# Altium footprint library Board_footprints.PcbLib: 24 footprints (part 1 of 2)
Each footprint in its own frame and in the unit in brackets; x right, y up, seen from the top. Pads: shape width x height; smd on the part's side, far side on the other; paste and mask are expansions set on the pad; w line width, h text height; cw(c..) or ccw(c..) is an arc to the next point about the centre after c.
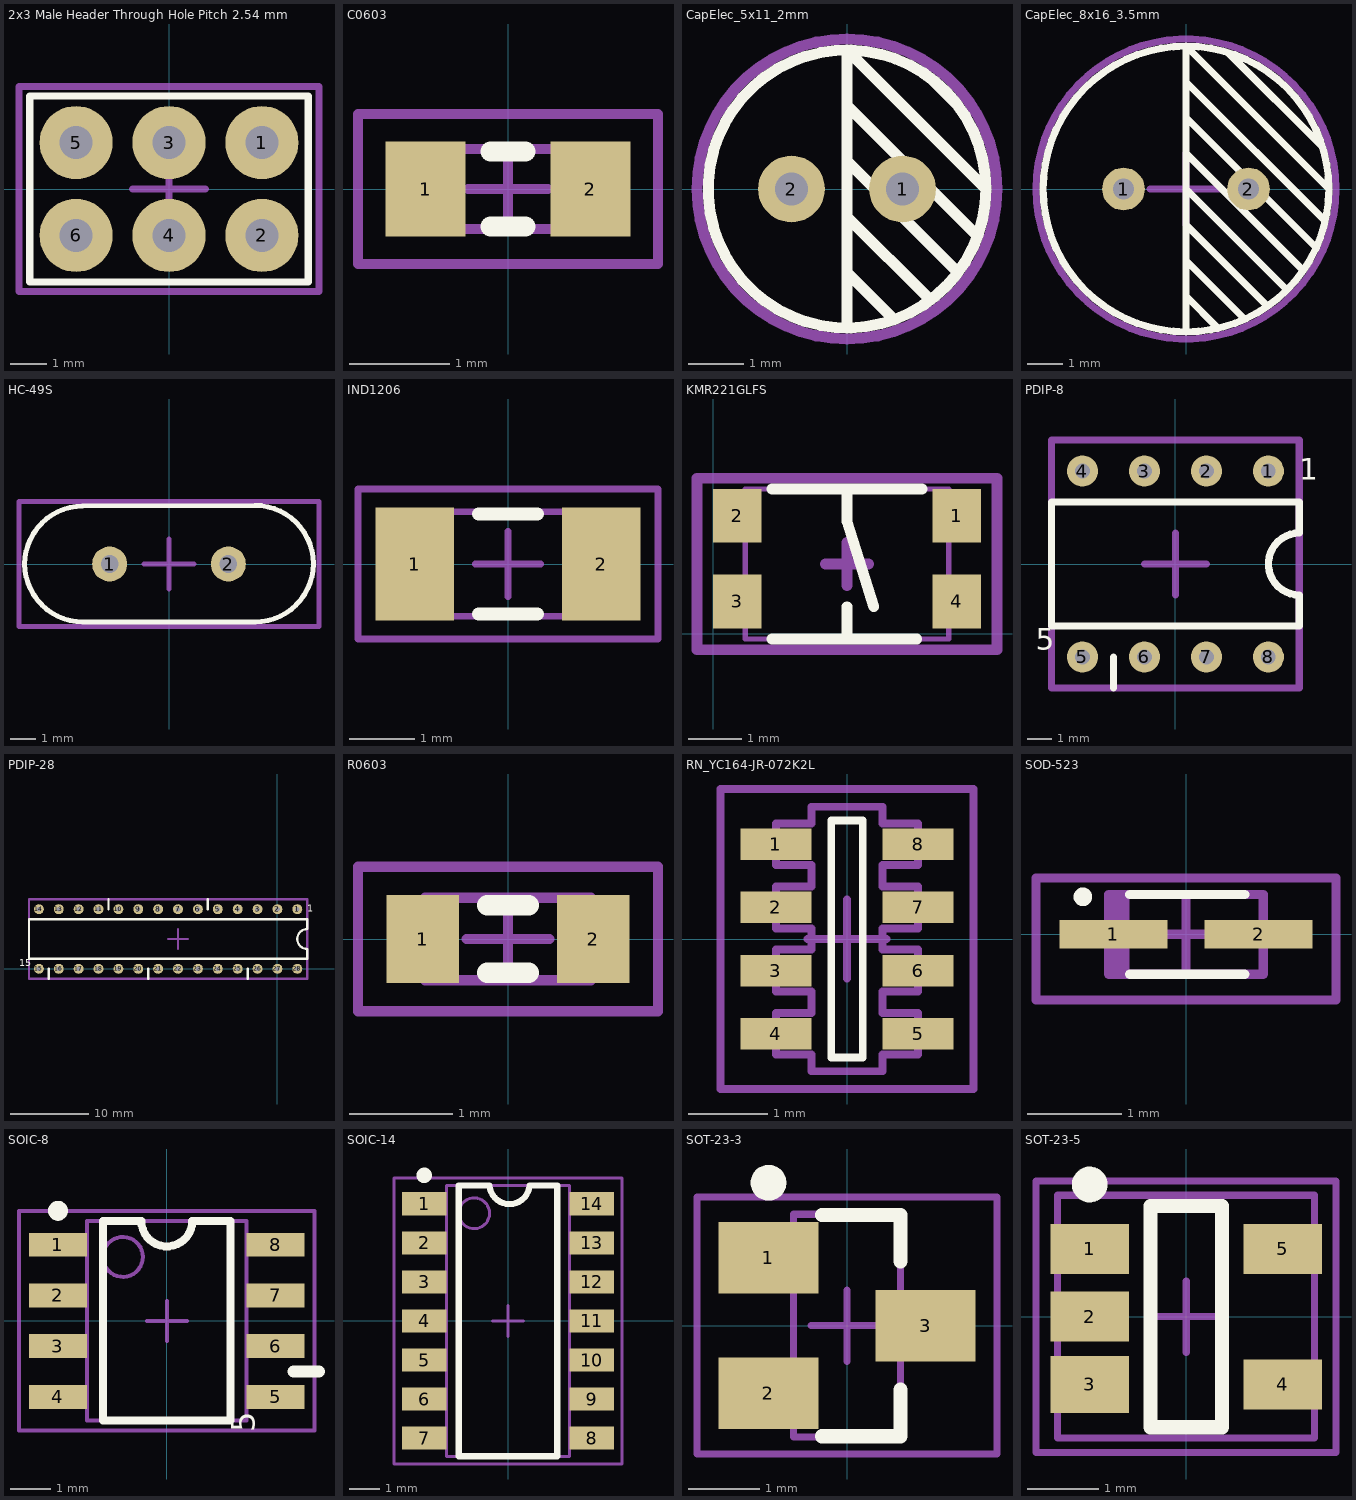
[diagram p0: the footprints below, top view; thin cyan lines are the x and y axes]

## 2x3 Male Header Through Hole Pitch 2.54 mm [mm]
pads (6):
  round 2 hole 0.9: 1(2.54,1.27) 2(2.54,-1.27) 3(0,1.27) 4(0,-1.27) 5(-2.54,1.27) 6(-2.54,-1.27)
Top Overlay:
  lines w0.2: -3.81,-2.54 3.81,-2.54 3.81,2.54 -3.81,2.54 -3.81,-2.54
Mechanical 15:
  lines w0.2: -1,0 1,0 ; 0,-1 0,1 ; -4.1,-2.8 4.1,-2.8 4.1,2.8 -4.1,2.8 -4.1,-2.8
3D body "2x3 TH Pitch 2_54mm.STEP": height 9.2, standoff -3.5, extent -3.81,-2.5 3.81,2.58

## C0603 [mm]
height 0.5
pads (2):
  rect 0.8x0.95 smd: 1(-0.825,0) 2(0.825,0)
Top Overlay:
  lines w0.2: -0.175,-0.375 0.175,-0.375 ; -0.175,0.375 0.175,0.375
Top Assy:
  lines w0.1: -0.8,-0.4 0.8,-0.4 0.8,0.4 -0.8,0.4 -0.8,-0.4
Mechanical 15:
  lines w0.1: -0.4,0 0.4,0 ; 0,-0.4 0,0.4 ; -1.5,-0.75 1.5,-0.75 1.5,0.75 -1.5,0.75 -1.5,-0.75
3D body: height 0.5, standoff 0, extent 0.5,-0.4 0.8,0.4
3D body: height 0.5, standoff 0, extent -0.8,-0.4 -0.5,0.4
3D body: height 0.5, standoff 0, extent -0.5,-0.4 0.5,0.4

## CapElec_5x11_2mm [mm]
pads (2):
  round 1.2 hole 0.6: 1(1,0) 2(-1,0)
Top Overlay:
  circle w0.2: c0,0 r2.5
  lines w0.2: 0,-2.5 0,2.5 2.5,0 ; 0,-1.5 0.85,-2.35 ; 0,-0.5 1.5,-2 ; 0,0.5 2,-1.5 ; 0,1.5 2.338,-0.838 ; 1.5,2 2,1.5
Mechanical 15:
  circle w0.2: c0,0 r2.7
3D body "Cap-EL(5x11-2)T.step": height 11.3, standoff -2.5, extent -2.5,-2.498 2.502,2.498

## CapElec_8x16_3.5mm [mm]
pads (2):
  round 1.2 hole 0.6: 1(-1.75,0) 2(1.75,0)
Top Overlay:
  circle w0.2: c0,0 r4
  lines w0.2: 0,-4 0,4 4,0 ; 0,-3 0.9,-3.9 ; 0,-2 1.637,-3.637 ; 0,-1 2.275,-3.275 ; 0,0 2.825,-2.825 ; 0,1 3.275,-2.275 ; 0,2 3.637,-1.637 ; 0,3 3.875,-0.875 ; 1.212,3.788 3.812,1.188
Mechanical 15:
  circle w0.2: c0,0 r4.2
  lines w0.2: -1,0 1,0 ; 0,-1 0,1
3D body "Cap-EL(8x16-3_5).step": height 16.5, standoff -2.8, extent -4,-4 4.002,4

## HC-49S [mm]
pads (2):
  round 1.4 hole 0.7: 1(-2.375,0) 2(2.375,0)
Top Overlay:
  lines w0.2: -3.45,2.325 ccw(c-3.425,-0.025) -5.775,0 ccw(c-3.425,0.025) -3.45,-2.325 3.45,-2.325 ccw(c3.425,0.025) 5.775,0 ; -3.45,2.33 3.45,2.345 ; 3.45,2.348 cw(c3.427,0) 5.775,0.025
Mechanical 15:
  lines w0.2: -1,0 1,0 ; 0,-1 0,1 ; -6,-2.5 -6,2.5 6,2.5 6,-2.5 -6,-2.5
3D body "HC-49S.step": height 3.6, standoff -1.99, extent -5.675,-2.325 5.675,2.325

## IND1206 [mm]
height 1.8
pads (2):
  rect 1.2x1.74 smd: 1(-1.43,0) 2(1.43,0)
Top Overlay:
  lines w0.2: -0.45,-0.77 0.45,-0.77 ; -0.45,0.77 0.45,0.77
Top Assy:
  lines w0.1: -1.6,-0.8 1.6,-0.8 1.6,0.8 -1.6,0.8 -1.6,-0.8
Mechanical 15:
  lines w0.1: -0.5,0 0.5,0 ; 0,-0.5 0,0.5 ; -2.3,-1.15 2.3,-1.15 2.3,1.15 -2.3,1.15 -2.3,-1.15
3D body "IND1206.step": height 1.8, standoff 0, extent -1.6,-0.8 1.6,0.8

## KMR221GLFS [mm]
pads (4):
  rect 0.9x1 smd mask+0.102: 1(4.55,2.2)
  rect 0.9x1 smd: 2(0.45,2.2) 3(0.45,0.6) 4(4.55,0.6)
Top Overlay:
  lines w0.2: 1.1,-0.1 3.8,-0.1 ; 1.1,2.7 3.9,2.7 ; 2.5,-0.1 2.5,0.5 ; 2.5,2.7 2.5,2.1 3,0.5
Top Assy:
  lines w0.1: 0.6,-0.1 0.6,2.7 4.4,2.7 4.4,-0.1 0.6,-0.1
Mechanical 15:
  lines w0.2: 2.1,1.3 2.9,1.3 ; 2.5,0.9 2.5,1.7 ; -0.3,-0.3 5.3,-0.3 5.3,2.9 -0.3,2.9 -0.3,-0.3
3D body "KMR221GLFS.stp": height 1.92, standoff -0.02, extent 0.2,-0.1 4.8,2.7

## PDIP-8 [mm]
pads (8):
  round 1.27 hole 0.6: 1(3.81,3.81) 2(1.27,3.81) 3(-1.27,3.81) 4(-3.81,3.81) 5(-3.81,-3.81) 6(-1.27,-3.81) 7(1.27,-3.81) 8(3.81,-3.81)
Top Overlay:
  lines w0.3: -2.54,-5.08 -2.54,-3.81 ; -5.08,-2.54 -5.08,2.54 5.08,2.54 5.08,1.27 ccw(c5.08,0) 5.08,-1.27 5.08,-2.54 -5.08,-2.54
  text "5" at -5.715,-3.798 h1.5
  text "1" at 5.08,3.175 h1.5
Mechanical 15:
  lines w0.3: -1.27,0 1.27,0 ; 0,-1.27 0,1.27 ; -5.08,-5.08 5.08,-5.08 5.08,5.08 -5.08,5.08 -5.08,-5.08
3D body "PDIP-8.step": height 5.6, standoff -2.68, extent -5.08,-4.13 4.92,4.13

## PDIP-28 [mm]
pads (28):
  round 1.27 hole 0.6: 1(2.54,7.62) 2(0,7.62) 3(-2.54,7.62) 4(-5.08,7.62) 5(-7.62,7.62) 6(-10.16,7.62) 7(-12.7,7.62) 8(-15.24,7.62) 9(-17.78,7.62) 10(-20.32,7.62) 11(-22.86,7.62) 12(-25.4,7.62) 13(-27.94,7.62) 14(-30.48,7.62) 15(-30.48,0) 16(-27.94,0) 17(-25.4,0) 18(-22.86,0) 19(-20.32,0) 20(-17.78,0) 21(-15.24,0) 22(-12.7,0) 23(-10.16,0) 24(-7.62,0) 25(-5.08,0) 26(-2.54,0) 27(0,0) 28(2.54,0)
Top Overlay:
  lines w0.3: -29.21,-1.27 -29.21,0 ; -21.59,7.62 -21.59,8.89 ; -16.51,-1.27 -16.51,0 ; -8.89,7.62 -8.89,8.89 ; -3.81,-1.27 -3.81,0 ; -31.75,1.27 3.81,1.27 3.81,2.54 cw(c3.81,3.81) 3.81,5.08 3.81,6.35 -31.75,6.35 -31.75,1.27
  text "15" at -33.02,0.012 h1.5
  text "1" at 3.81,6.985 h1.5
Mechanical 15:
  lines w0.3: -13.97,3.81 -11.43,3.81 ; -12.7,2.54 -12.7,5.08 ; -31.75,-1.27 -31.75,8.89 3.81,8.89 3.81,-1.27 -31.75,-1.27
3D body "ATmega 48_88_168_328 28P3_90DEG.step": height 5.24, standoff -1.88, extent -31.295,-0.143 3.355,7.763

## R0603 [mm]
height 0.5
pads (2):
  rect 0.7x0.85 smd: 1(-0.825,0) 2(0.825,0)
Top Overlay:
  lines w0.2: -0.2,-0.325 0.2,-0.325 ; -0.2,0.325 0.2,0.325
Top Assy:
  lines w0.1: -0.8,-0.4 0.8,-0.4 0.8,0.4 -0.8,0.4 -0.8,-0.4
Mechanical 15:
  lines w0.1: -0.4,0 0.4,0 ; 0,-0.4 0,0.4 ; -1.45,-0.7 1.45,-0.7 1.45,0.7 -1.45,0.7 -1.45,-0.7
3D body "R0603.step": height 0.5, standoff 0, extent -0.8,-0.4 0.8,0.4

## RN_YC164-JR-072K2L [mm] "Chip Array, ConvexE, 8-Leads, Pitch 0,80mm,  Body 3,20x1,60mm,  IPC Medium Density"
height 0.7
pads (8):
  rect 0.9x0.4 smd: 1(-0.9,1.2) 2(-0.9,0.4) 3(-0.9,-0.4) 4(-0.9,-1.2) 5(0.9,-1.2) 6(0.9,-0.4) 7(0.9,0.4) 8(0.9,1.2)
Top Overlay:
  lines w0.1: -0.2,-1.5 0.2,-1.5 0.2,1.5 -0.2,1.5 -0.2,-1.5
Top Assy:
  lines w0.1: -0.9,-1.465 -0.9,-0.935 -0.45,-0.935 -0.45,-0.665 -0.9,-0.665 -0.9,-0.135 -0.45,-0.135 -0.45,0.135 -0.9,0.135 -0.9,0.665 -0.45,0.665 -0.45,0.935 -0.9,0.935 -0.9,1.465 -0.45,1.465 -0.45,1.675 0.45,1.675 0.45,1.465 0.9,1.465 0.9,0.935 0.45,0.935 0.45,0.665 0.9,0.665 0.9,0.135 0.45,0.135 0.45,-0.135 0.9,-0.135 0.9,-0.665 0.45,-0.665 0.45,-0.935 0.9,-0.935 0.9,-1.465 0.45,-1.465 0.45,-1.675 -0.45,-1.675 -0.45,-1.465 -0.9,-1.465
Mechanical 15:
  lines w0.1: -0.5,0 0.5,0 ; 0,-0.5 0,0.5 ; -1.6,-1.9 -1.6,1.9 1.6,1.9 1.6,-1.9 -1.6,-1.9
3D body "RN_YC164-JR-072K2L.step": height 0.7, standoff 0, extent -0.925,-1.675 0.925,1.675

## SOD-523 [mm]
height 0.65
pads (2):
  rect 1.15x0.3 smd: 1(-0.775,0) 2(0.775,0)
Top Overlay:
  circle w0.1: c-1.1,0.4 r0.05
  lines w0.1: -0.6,-0.425 0.625,-0.425 ; -0.6,0.425 0.625,0.425
Top Assy:
  rectangle: -0.825,-0.425 -0.603,0.425
  lines w0.1: -0.825,-0.425 0.825,-0.425 0.825,0.425 -0.825,0.425 -0.825,-0.425
Mechanical 15:
  lines w0.1: -0.425,0 0.425,0 ; 0,-0.425 0,0.425 ; -1.6,-0.7 -1.6,0.6 1.6,0.6 1.6,-0.7 -1.6,-0.7
3D body "SOD523.step": height 0.7, standoff 0, extent -0.85,-0.45 0.85,0.45

## SOIC-8 [mm]
height 1.75
pads (8):
  rect 1.45x0.6 smd: 1(-2.725,1.905) 2(-2.725,0.635) 3(-2.725,-0.635) 4(-2.725,-1.905) 5(2.725,-1.905) 6(2.725,-0.635) 7(2.725,0.635) 8(2.725,1.905)
Top Overlay:
  circle w0.25: c-2.725,2.755 r0.125
  lines w0.2: -1.6,-2.5 1.6,-2.5 1.6,2.5 0.636,2.5 cw(c0,2.5) -0.636,2.5 -1.6,2.5 -1.6,-2.5
  lines w0.3: 3.175,-1.27 3.81,-1.27
  text "5" at 2.405,-2.794 h1
Top Assy:
  circle w0.1: c-1.1,1.6 r0.5
  lines w0.1: -2,-2.5 2,-2.5 2,2.5 -2,2.5 -2,-2.5
Mechanical 15:
  lines w0.1: -0.5,0 0.5,0 ; 0,-0.5 0,0.5 ; -3.7,-2.75 3.7,-2.75 3.7,2.75 -3.7,2.75 -3.7,-2.75
3D body "SOIC-8.step": height 1.75, standoff 0, extent -3,-2.5 3,2.5

## SOIC-14 [mm] "SOIC, 14-Leads, Body 7,15x3,90mm, Pitch 1,27mm, IPC Medium Density"
height 1.75
pads (14):
  rect 1.45x0.75 smd: 1(-2.725,3.81) 2(-2.725,2.54) 3(-2.725,1.27) 4(-2.725,0) 5(-2.725,-1.27) 6(-2.725,-2.54) 7(-2.725,-3.81) 8(2.725,-3.81) 9(2.725,-2.54) 10(2.725,-1.27) 11(2.725,0) 12(2.725,1.27) 13(2.725,2.54) 14(2.725,3.81)
Top Overlay:
  circle w0.25: c-2.725,4.735 r0.125
  lines w0.2: -1.6,-4.4 -1.6,4.4 -0.6,4.4 ccw(c0.05,4.45) 0.7,4.4 1.6,4.4 1.6,-4.4 -1.6,-4.4
Top Assy:
  circle w0.1: c-1.1,3.5 r0.5
  lines w0.1: -2,-4.4 -2,4.4 2,4.4 2,-4.4 -2,-4.4
Mechanical 15:
  lines w0.1: -0.5,0 0.5,0 ; 0,-0.5 0,0.5 ; -3.7,-4.65 -3.7,4.65 3.7,4.65 3.7,-4.65 -3.7,-4.65
3D body "LM3900.step": height 1.75, standoff 0, extent -3,-4.4 3,4.4

## SOT-23-3 [mm]
height 1.2
pads (3):
  rect 1.4x1 smd: 1(-1.1,0.95) 2(-1.1,-0.95) 3(1.1,0)
Top Overlay:
  circle w0.25: c-1.1,2 r0.125
  lines w0.2: -0.35,-1.55 0.75,-1.55 0.75,-0.9 ; -0.35,1.55 0.75,1.55 0.75,0.9
Top Assy:
  lines w0.1: -0.75,-1.56 0.75,-1.56 0.75,1.56 -0.75,1.56 -0.75,-1.56
Mechanical 15:
  lines w0.1: -0.5,0 0.5,0 ; 0,-0.5 0,0.5 ; -2.1,-1.8 2.1,-1.8 2.1,1.8 -2.1,1.8 -2.1,-1.8
3D body "SOT23-3.stp": height 1, standoff 0, extent -1.05,-1.5 1.25,1.4

## SOT-23-5 [mm] "SOT23, 5-Leads, Body 2,90x2,80mm, Pitch 0,95mm, IPC High Density"
height 1.45
pads (5):
  rect 1.1x0.7 smd: 1(-1.347,0.951) 2(-1.347,0.001) 4(1.353,-0.949) 5(1.353,0.951)
  rect 1.1x0.8 smd: 3(-1.347,-0.949)
Top Overlay:
  circle w0.25: c-1.347,1.851 r0.125
  lines w0.2: -0.497,-1.549 0.503,-1.549 0.503,1.551 -0.497,1.551 -0.497,-1.549
Top Assy:
  lines w0.1: -1.8,-1.7 -1.8,1.7 1.8,1.7 1.8,-1.7 -1.8,-1.7
Mechanical 15:
  lines w0.1: -0.497,0.001 0.503,0.001 ; 0.003,-0.499 0.003,0.501 ; -2.1,-1.9 -2.1,1.9 2.1,1.9 2.1,-1.9 -2.1,-1.9
3D body "SOT23-5.STEP": height 1.09, standoff -0.01, extent -1.25,-1.5 1.25,1.5